# EAGLE library part VGA_CONNECTOR (library fpga_game_console)
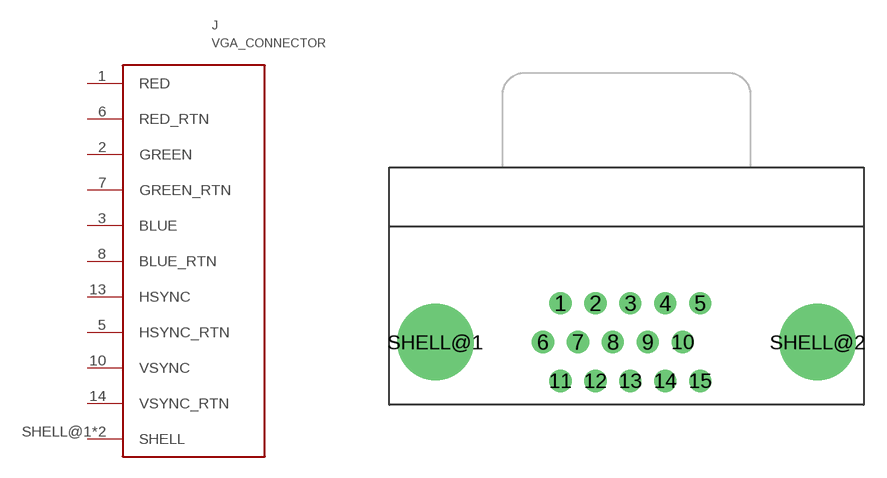
[diagram p0: symbol with the pads of VGA_CONNECTOR_FCI; footprint VGA_CONNECTOR_FCI]

Designator prefix J

## VGA_CONNECTOR  [VGA_CONNECTOR_FCI]
1  RED
2  GREEN
3  BLUE
5  HSYNC_RTN
6  RED_RTN
7  GREEN_RTN
8  BLUE_RTN
10  VSYNC
13  HSYNC
14  VSYNC_RTN
SHELL@1  SHELL
SHELL@2  SHELL

## Footprint VGA_CONNECTOR_FCI (pad centres in mm)
drill 0.95: 1 -4.32,2.54; 2 -2.035,2.54; 3 0.25,2.54; 4 2.535,2.54; 5 4.82,2.54; 6 -5.463,0; 7 -3.178,0; 8 -0.892,0; 9 1.393,0; 10 3.678,0; 11 -4.32,-2.54; 12 -2.035,-2.54; 13 0.25,-2.54; 14 2.535,-2.54; 15 4.82,-2.54
drill 3.2 pad 5: SHELL@1 -12.5,0; SHELL@2 12.5,0